# Altium schematic symbol library CON_DIVERSOS.SchLib: 77 symbols (part 2 of 4)
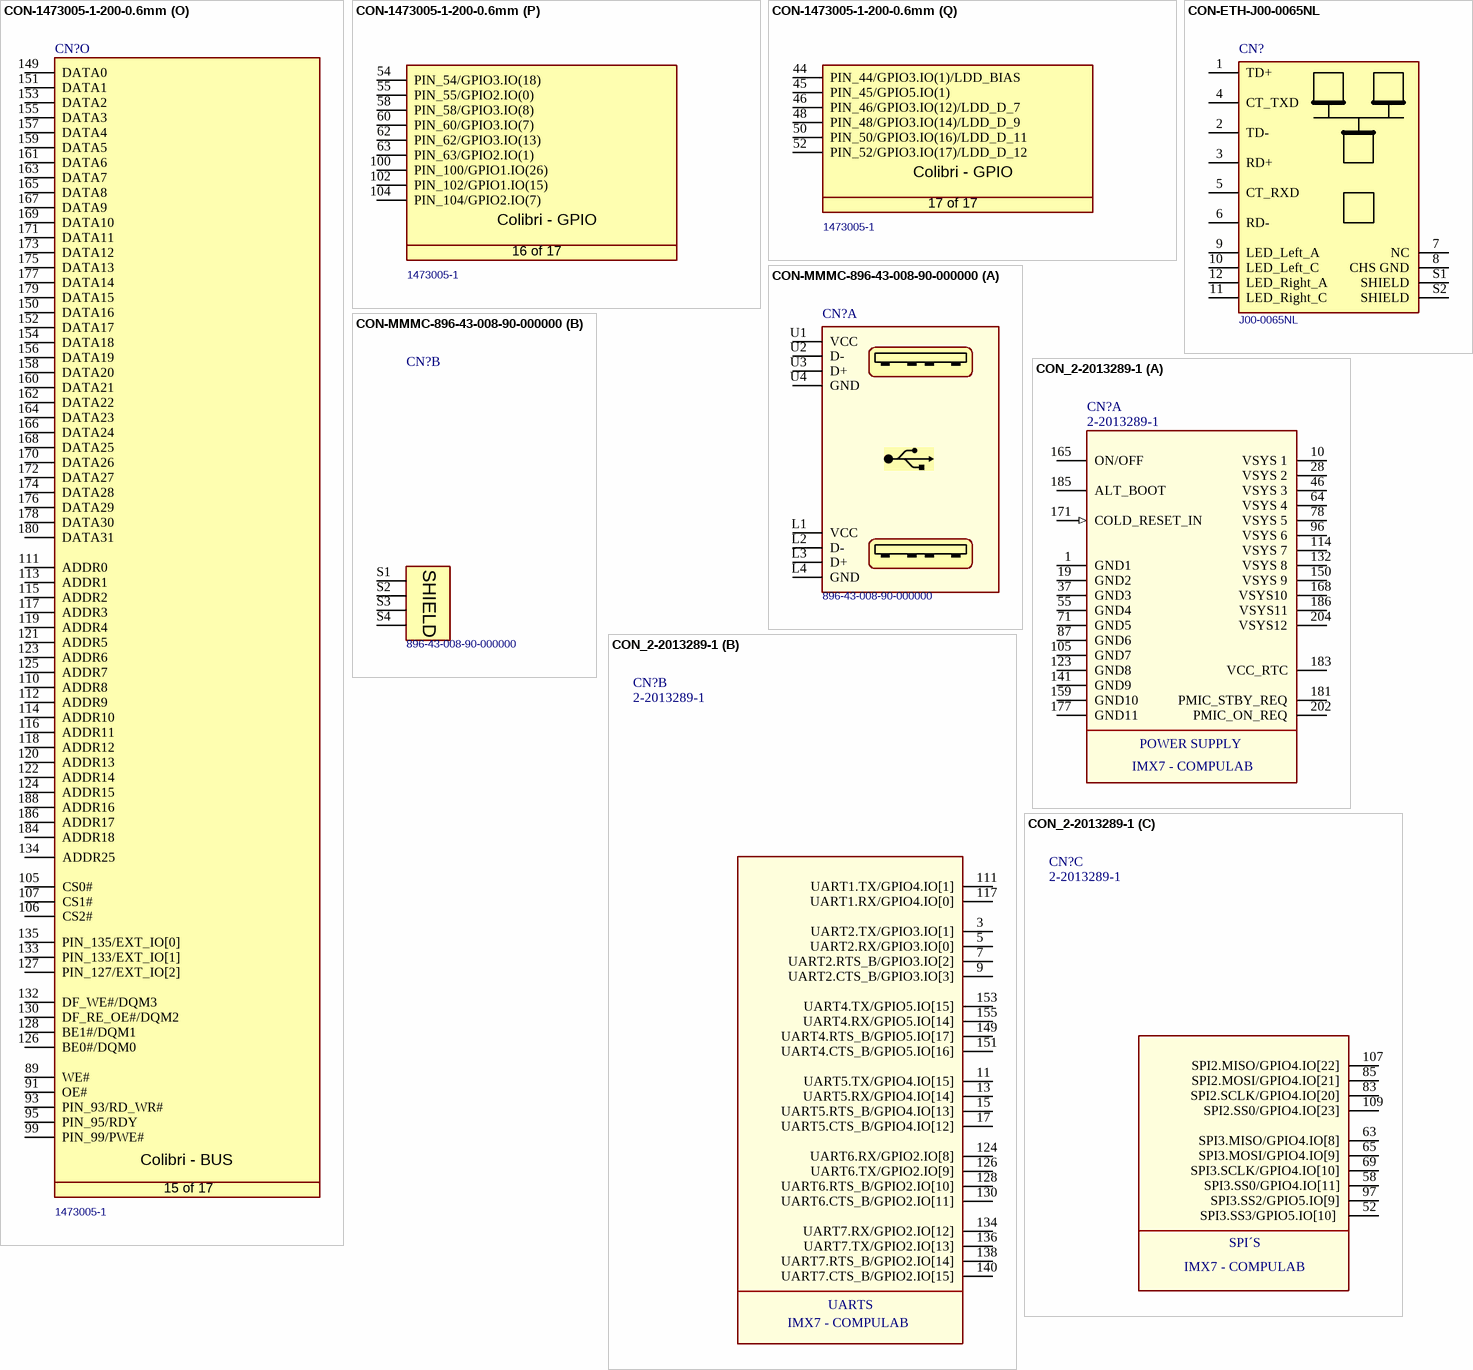
[diagram p6: symbols CON-1473005-1-200-0.6mm to CON_2-2013289-1]

## CON-ETH-J00-0065NL
designator CN?, comment J00-0065NL
RJ45 Connector; Manufacturer Part Number: J000065NL; Fabricante: Pulse; No. of ways: 12; Number of Contacts: 8; Shielding: Shielded; Gender: Female; Number of Ports: 1; Direction: Down; Number of Cores per Jack: 4; Pitch: 2.54mm; Value: *; Footprint: *; ComponentLink1Description: LOJA; ComponentLink1URL: https://www.digikey.com/products/en?keywords=J00-0065NL; Supplier 1: Digi-Key; Supplier Part Number 1: 553-1345-ND; Manufacturer: Pulse; Stock 1: 1473; Pricing 1: 1=6,260000, 10=6,003000, 25=5,481200, 50=5,220000, 100=4,959000, 250=4,437000, 500=4,176000, 1000=3,654000, 2500=3,471300 (USD); RoHS: Yes; Mount: Through Hole; Contact Plating: Gold; Contact Material: Bronze; Color: Green,Yellow; Housing Material: Thermoplastic; Min Operating Temperature: 0°C; Max Operating Temperature: 70°C; Termination: Solder; Orientation: Right Angle; Package Quantity: 25; Number of Rows: 1; Packaging: Bulk; Connector Type: RJ45; Number of Positions Loaded: 8; Length: 16.26mm; Depth: 21.59mm; Radiation Hardening: No; Lead Free: Lead Free; ComponentLink2URL: https://datasheet.ciiva.com/3138/+j414-3138717.pdf?src-supplier=Avnet; ComponentLink2Description: https://datasheet.ciiva.com/3138/+j414-3138717.pdf?src-supplier=Avnet; ComponentLink3URL: https://datasheet.ciiva.com/25908/+j414-25908734.pdf?src-supplier=Avnet+Europe; ComponentLink3Description: https://datasheet.ciiva.com/25908/+j414-25908734.pdf?src-supplier=Avnet+Europe; MPN: J00-0065NL
footprint T_PULSE_J00-0065NL (RJ45 Connector)
pins: 1 TD+, 2 TD-, 3 RD+, 4 CT_TXD, 5 CT_RXD, 6 RD-, 7 NC, 8 CHS GND, 9 LED_Left_A, 10 LED_Left_C, 11 LED_Right_C, 12 LED_Right_A, S1 SHIELD, S2 SHIELD

## CON-MMMC-896-43-008-90-000000
designator CN?, comment 896-43-008-90-000000
USB 2.0 double row, Type A; Manufacturer: Mill-Max; No. of ways: 8; Fabricante: Mill-Max Mfg. Corp.; Gender: Receptacle; Connector Type: USB,Receptacle; Number of Positions: 4; Number of Ports: 1; Insulation Resistance: 1GR; Max Voltage Rating (AC): 100V; USB Standard: USB 2.0; value: *; Footprint: *; Supplier 1: Digi-Key; Supplier Part Number 1: ED90063-ND; Manufacturer Part Number: 896-43-008-90-000000; Stock 1: 5699; Pricing 1: 1=2,35000, 10=2,12900, 25=1,99880, 50=1,91180, 100=1,82490, 250=1,65112, 500=1,52076, 1000=1,30350, 2500=1,21660 (USD); RoHS: Yes; Mount: Through Hole,Horizontal; Contact Material: Copper Alloy; Contact Plating: Gold,Tin; Housing Material: Polybutylene; Number of Terminals: 8; Packaging: Tray; Package Quantity: 120; Number of Contacts: 8; Termination: SMD/SMT; Orientation: Right Angle; Length: 14.5mm; Height: 15.5mm; Lead Free: Lead Free; Flammability Rating: UL94 V-0; REACH SVHC: Unknown; ComponentLink1URL: https://datasheet.ciiva.com/3897/896-43-008-90-000000-3897777.pdf?src-supplier=Arrow; ComponentLink1Description: https://datasheet.ciiva.com/3897/896-43-008-90-000000-3897777.pdf?src-supplier=Arrow; ComponentLink2URL: https://datasheet.ciiva.com/16404/8964300890000000-16404612.pdf?src-supplier=Future+Electronics; ComponentLink2Description: https://datasheet.ciiva.com/16404/8964300890000000-16404612.pdf?src-supplier=Future+Electronics; MPN: 896-43-008-90-000000
footprint T_MMMC_896-43-008-90-000000 (USB 2.0 double row, Type A)
part A pins: L1 VCC (power), L2 D-, L3 D+, L4 GND (power), U1 VCC (power), U2 D-, U3 D+, U4 GND (power)
part B pins: S1 SHIELD, S2 SHIELD, S3 SHIELD, S4 SHIELD

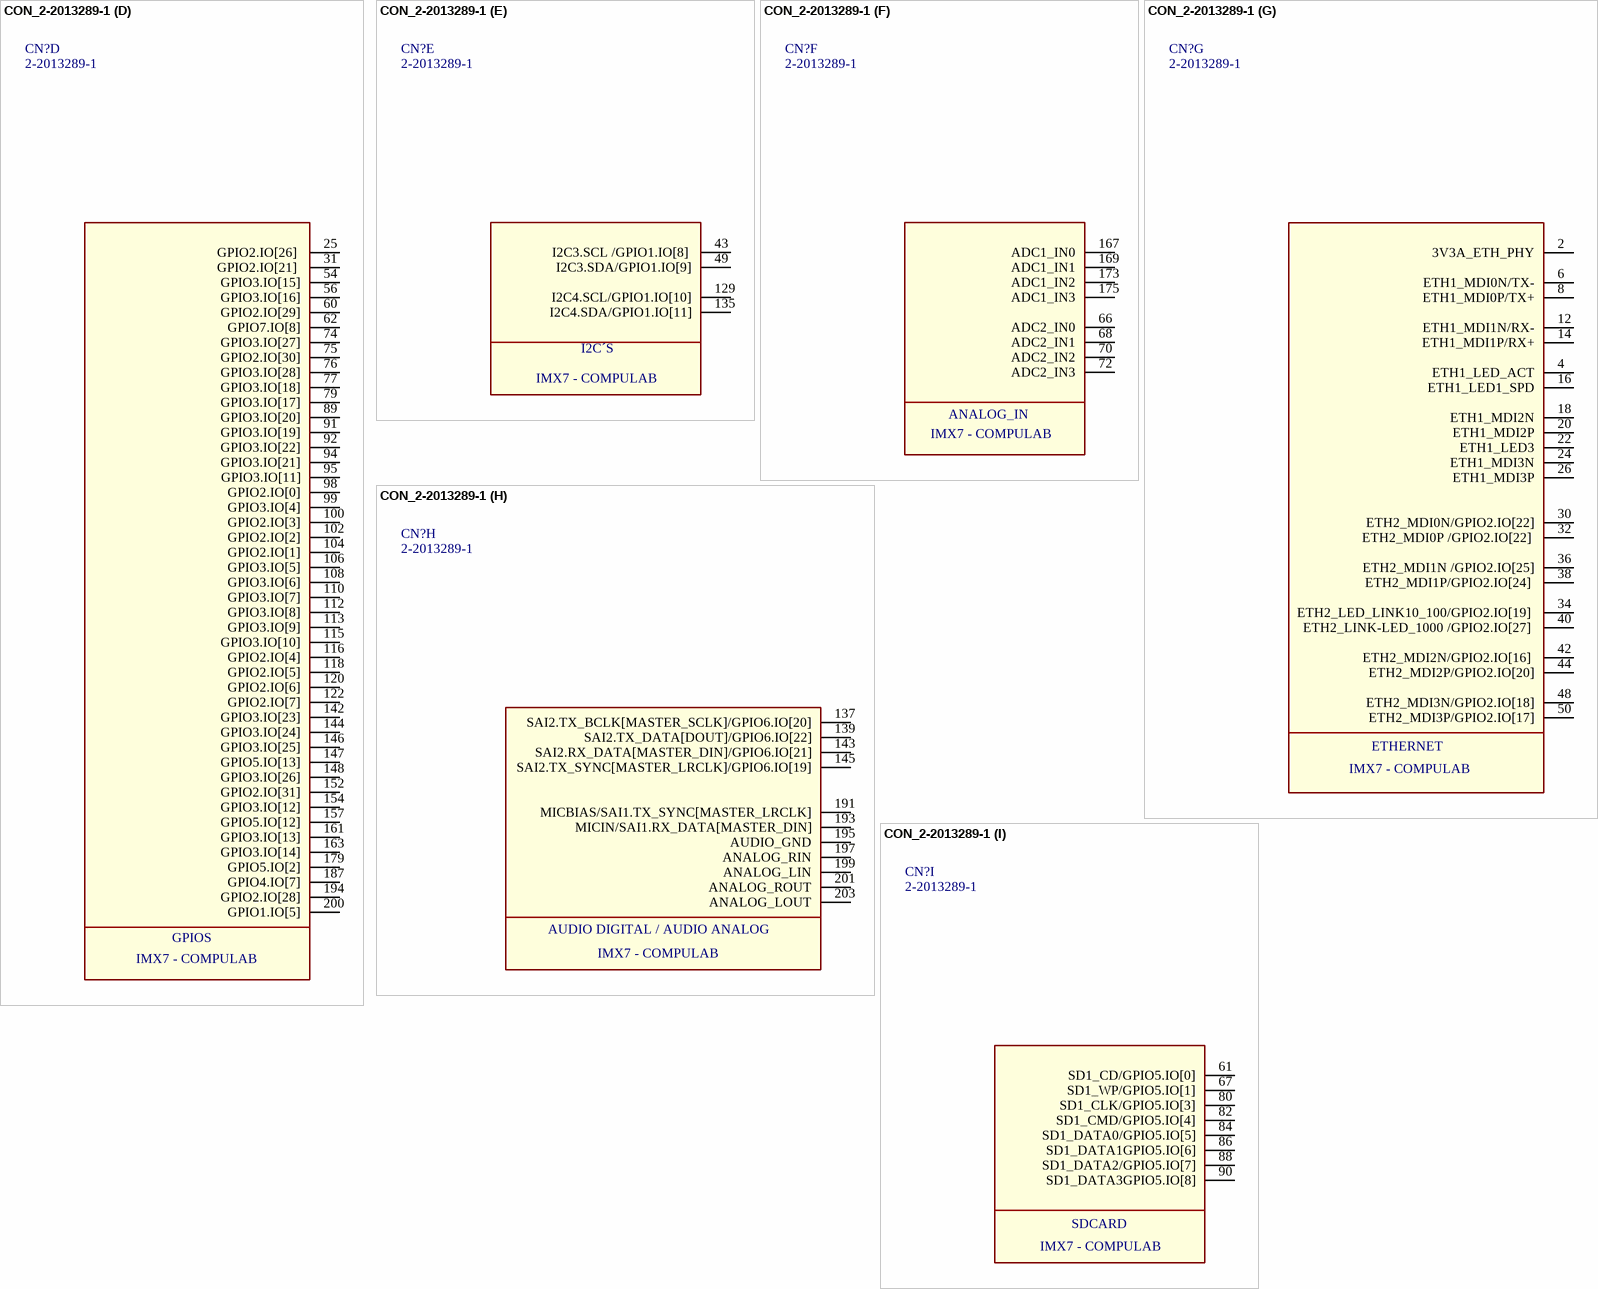
[diagram p3: symbol CON_2-2013289-1]

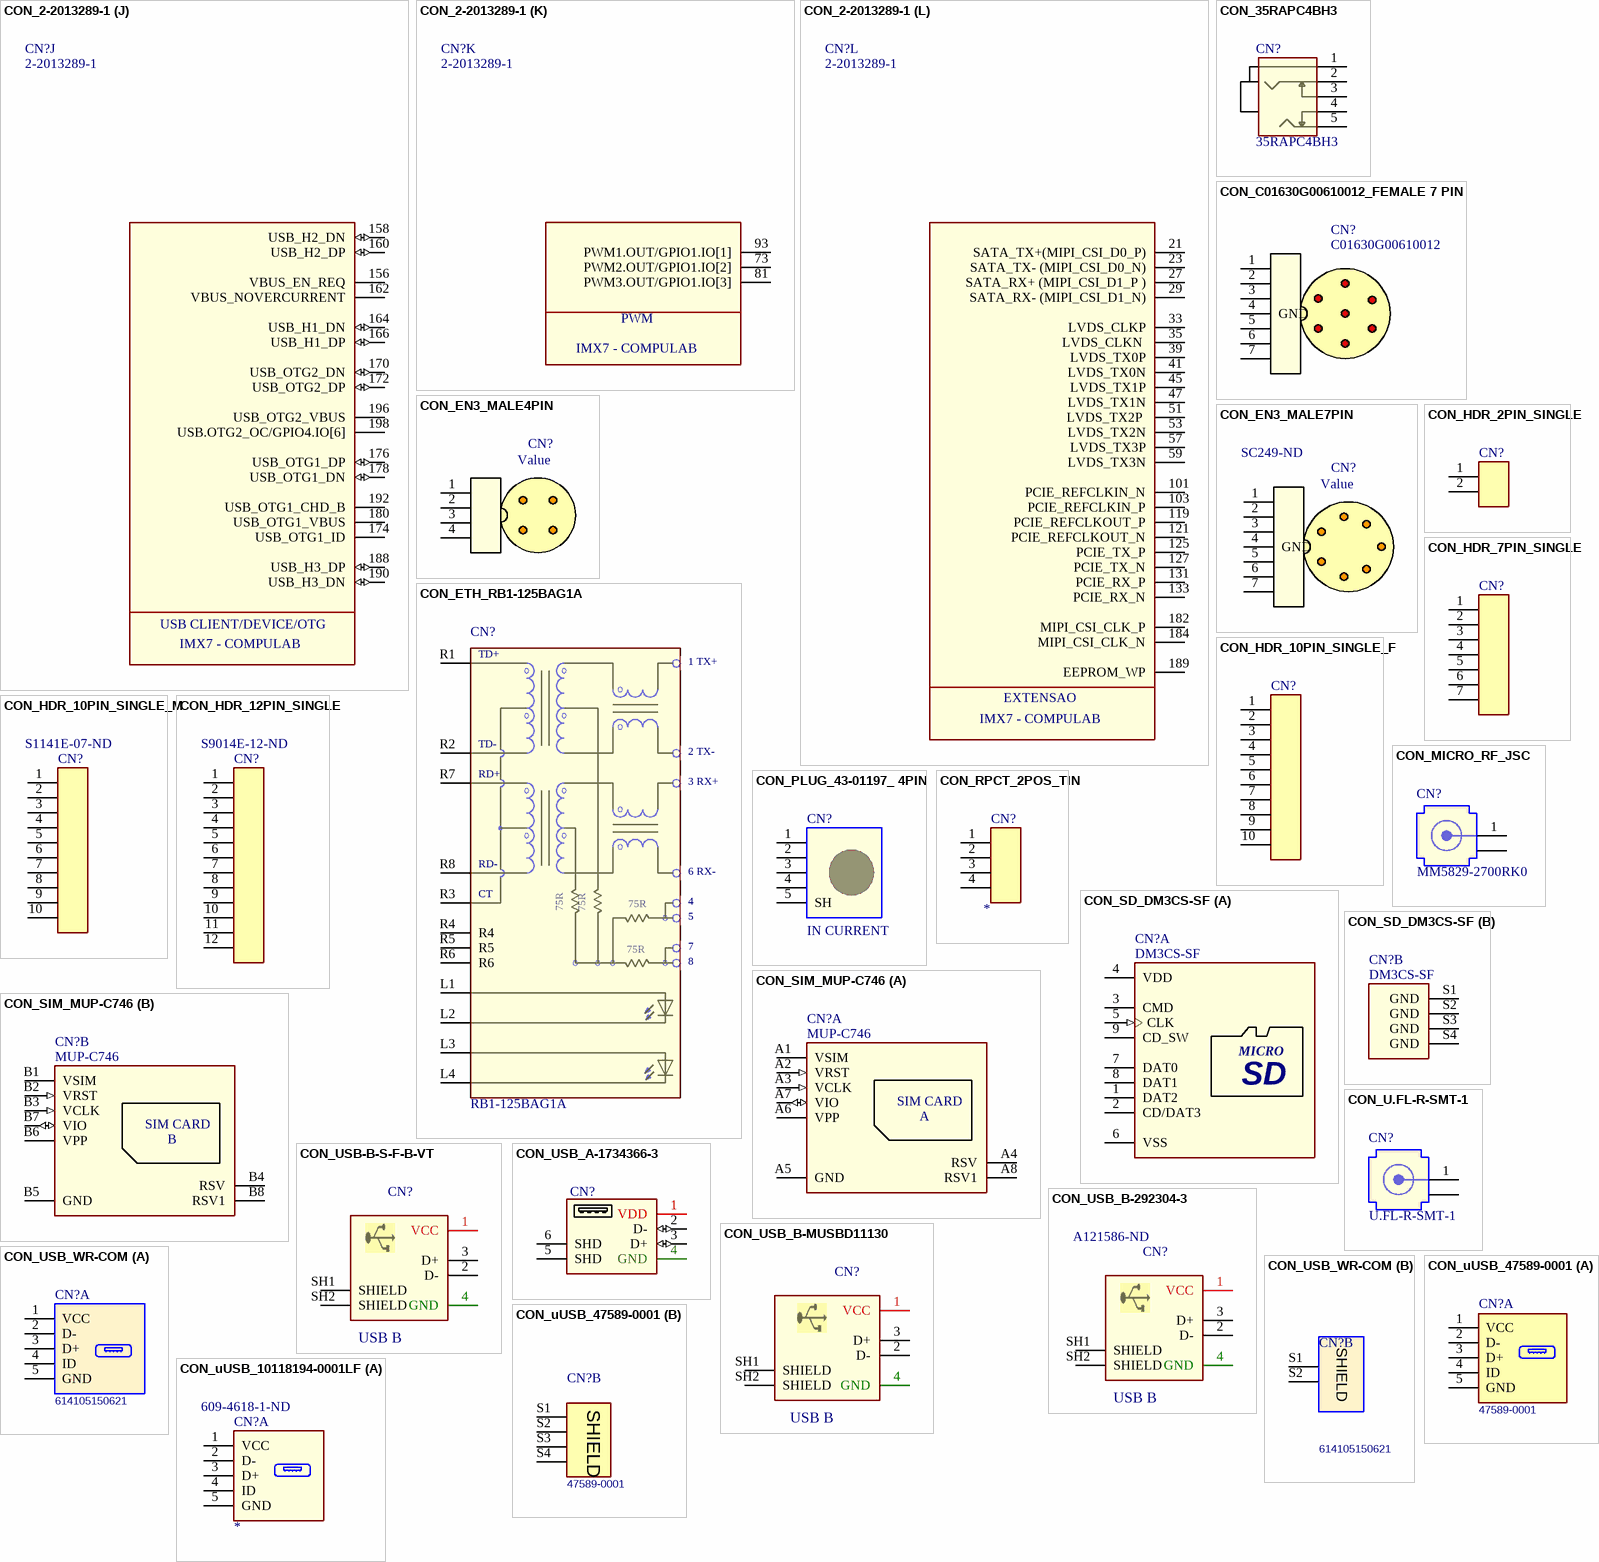
[diagram p4: symbols CON_2-2013289-1 to CON_uUSB_10118194-0001LF]

## CON_2-2013289-1
designator CN?, comment 2-2013289-1
CONN SKT SODIMM 204POS SMD; Manufacturer: TE Connectivity; FABRICANTE: TE CONN; Body Material: Thermoplastic; Number of Contacts: 204; Memory Type: SDRAM,DDR; Circuit Application: Power; Connector System: Cable-to-Board; Sealable: No (Without); PCB Mount Retention: With; Voltage Rating: 1.5V; Contact Current Rating: 500mA; Gender: Female; Pitch: 0.024inch; Row Spacing: 0.322inch; Stack Height: 5.2mm; Value: 2-2013289-1; ComponentLink1Description: LOJA; ComponentLink1URL: https://www.digikey.com/product-detail/en/2-2013289-1/A116236CT-ND/4569840?utm_campaign=buynow&WT.z_cid=ref_octopart_dkc_buynow&utm_medium=aggregator&curr=usd&site=us&utm_source=octopart; MPN: 2-2013289-1; FOOTPRINT: SMD 204P; Supplier 1: Digi-Key; Supplier Part Number 1: A116236CT-ND; Manufacturer Part Number: 2-2013289-1; Stock 1: 5205; Pricing 1: 1=4,42000, 10=4,24200, 25=3,88840, 50=3,71180, 100=3,53500 (USD); RoHS: Yes; Mount: Surface Mount; Housing Material: Thermoplastic; Housing Color: Black; Contact Material: Copper Alloy; Contact Plating: Gold; Insulation Material: Thermoplastic; Min Operating Temperature: -67°C; Max Operating Temperature: 185°C; Number of Rows: 2; Orientation: Right Angle; Termination: Solder; Number of Positions: 204; Package Quantity: 200; Packaging: Tape and Reel; Length: 71.5mm; Height: 5.2mm; Depth: 26.5mm; Radiation Hardening: No; Flammability Rating: UL94 V-0; ComponentLink2URL: https://datasheet.ciiva.com/11746/0900766b80f911ad-11746307.pdf?src-supplier=RSComponents; ComponentLink2Description: https://datasheet.ciiva.com/11746/0900766b80f911ad-11746307.pdf?src-supplier=RSComponents; ComponentLink3URL: https://datasheet.ciiva.com/30062/eng-ds-6-1773454-7-0509-30062934.pdf?src-supplier=Onlinecomponents.com; ComponentLink3Description: https://datasheet.ciiva.com/30062/eng-ds-6-1773454-7-0509-30062934.pdf?src-supplier=Onlinecomponents.com; ComponentLink4URL: https://datasheet.ciiva.com/15171/getdatasheetpartid-177737-15171703.pdf?src-supplier=Verical; ComponentLink4Description: https://datasheet.ciiva.com/15171/getdatasheetpartid-177737-15171703.pdf?src-supplier=Verical; ComponentLink5URL: https://datasheet.ciiva.com/16469/eng-ds-6-1773454-7-0511-16469352.pdf?src-supplier=Avnet+Asia; ComponentLink5Description: https://datasheet.ciiva.com/16469/eng-ds-6-1773454-7-0511-16469352.pdf?src-supplier=Avnet+Asia; ComponentLink6URL: https://datasheet.ciiva.com/3136/eng-ds-6-1773454-7-0511-3136377.pdf?src-supplier=Avnet; ComponentLink6Description: https://datasheet.ciiva.com/3136/eng-ds-6-1773454-7-0511-3136377.pdf?src-supplier=Avnet; ComponentLink7URL: https://datasheet.ciiva.com/16651/eng-ds-6-1773454-7-0511-16651402.pdf?src-supplier=Avnet+Europe; ComponentLink7Description: https://datasheet.ciiva.com/16651/eng-ds-6-1773454-7-0511-16651402.pdf?src-supplier=Avnet+Europe; ComponentLink8URL: https://datasheet.ciiva.com/16311/2-2013289-1-16311548.pdf?src-supplier=Future+Electronics; ComponentLink8Description: https://datasheet.ciiva.com/16311/2-2013289-1-16311548.pdf?src-supplier=Future+Electronics
footprint CON_TE_2-2013289-1 (SODIMM 204P)
part A pins: 1 GND1 (power), 10 VSYS 1 (power), 19 GND2 (power), 28 VSYS 2 (power), 37 GND3 (power), 46 VSYS 3, 55 GND4, 64 VSYS 4, 71 GND5, 78 VSYS 5 (power), 87 GND6 (power), 96 VSYS 6 (power), 105 GND7 (power), 114 VSYS 7 (power), 123 GND8 (power), 132 VSYS 8 (power), 141 GND9 (power), 150 VSYS 9 (power), 159 GND10 (power), 165 ON/OFF, 168 VSYS10 (power), 171 COLD_RESET_IN (in), 177 GND11, 181 PMIC_STBY_REQ, 183 VCC_RTC (power), 185 ALT_BOOT, 186 VSYS11 (power), 202 PMIC_ON_REQ, 204 VSYS12
part B pins: 3 UART2.TX/GPIO3.IO[1], 5 UART2.RX/GPIO3.IO[0], 7 UART2.RTS_B/GPIO3.IO[2], 9 UART2.CTS_B/GPIO3.IO[3], 11 UART5.TX/GPIO4.IO[15], 13 UART5.RX/GPIO4.IO[14], 15 UART5.RTS_B/GPIO4.IO[13], 17 UART5.CTS_B/GPIO4.IO[12], 111 UART1.TX/GPIO4.IO[1], 117 UART1.RX/GPIO4.IO[0], 124 UART6.RX/GPIO2.IO[8], 126 UART6.TX/GPIO2.IO[9], 128 UART6.RTS_B/GPIO2.IO[10], 130 UART6.CTS_B/GPIO2.IO[11], 134 UART7.RX/GPIO2.IO[12], 136 UART7.TX/GPIO2.IO[13], 138 UART7.RTS_B/GPIO2.IO[14], 140 UART7.CTS_B/GPIO2.IO[15], 149 UART4.RTS_B/GPIO5.IO[17], 151 UART4.CTS_B/GPIO5.IO[16], 153 UART4.TX/GPIO5.IO[15], 155 UART4.RX/GPIO5.IO[14]
part C pins: 52 SPI3.SS3/GPIO5.IO[10] , 58 SPI3.SS0/GPIO4.IO[11], 63 SPI3.MISO/GPIO4.IO[8], 65 SPI3.MOSI/GPIO4.IO[9], 69 SPI3.SCLK/GPIO4.IO[10], 83 SPI2.SCLK/GPIO4.IO[20], 85 SPI2.MOSI/GPIO4.IO[21], 97 SPI3.SS2/GPIO5.IO[9], 107 SPI2.MISO/GPIO4.IO[22], 109 SPI2.SS0/GPIO4.IO[23]
part D pins: 25 GPIO2.IO[26] , 31 GPIO2.IO[21] , 54 GPIO3.IO[15], 56 GPIO3.IO[16], 60 GPIO2.IO[29], 62 GPIO7.IO[8], 74 GPIO3.IO[27], 75 GPIO2.IO[30], 76 GPIO3.IO[28], 77 GPIO3.IO[18], 79 GPIO3.IO[17], 89 GPIO3.IO[20], 91 GPIO3.IO[19], 92 GPIO3.IO[22], 94 GPIO3.IO[21], 95 GPIO3.IO[11], 98 GPIO2.IO[0], 99 GPIO3.IO[4], 100 GPIO2.IO[3], 102 GPIO2.IO[2], 104 GPIO2.IO[1], 106 GPIO3.IO[5], 108 GPIO3.IO[6], 110 GPIO3.IO[7], 112 GPIO3.IO[8], 113 GPIO3.IO[9], 115 GPIO3.IO[10], 116 GPIO2.IO[4], 118 GPIO2.IO[5], 120 GPIO2.IO[6], 122 GPIO2.IO[7], 142 GPIO3.IO[23], 144 GPIO3.IO[24], 146 GPIO3.IO[25], 147 GPIO5.IO[13], 148 GPIO3.IO[26], 152 GPIO2.IO[31], 154 GPIO3.IO[12], 157 GPIO5.IO[12], 161 GPIO3.IO[13], 163 GPIO3.IO[14], 179 GPIO5.IO[2], 187 GPIO4.IO[7], 194 GPIO2.IO[28], 200 GPIO1.IO[5]
part E pins: 43 I2C3.SCL /GPIO1.IO[8] , 49 I2C3.SDA/GPIO1.IO[9], 129 I2C4.SCL/GPIO1.IO[10], 135 I2C4.SDA/GPIO1.IO[11]
part F pins: 66 ADC2_IN0, 68 ADC2_IN1, 70 ADC2_IN2, 72 ADC2_IN3, 167 ADC1_IN0, 169 ADC1_IN1, 173 ADC1_IN2, 175 ADC1_IN3
part G pins: 2 3V3A_ETH_PHY (power), 4 ETH1_LED_ACT, 6 ETH1_MDI0N/TX-, 8 ETH1_MDI0P/TX+, 12 ETH1_MDI1N/RX-, 14 ETH1_MDI1P/RX+, 16 ETH1_LED1_SPD, 18 ETH1_MDI2N, 20 ETH1_MDI2P, 22 ETH1_LED3, 24 ETH1_MDI3N, 26 ETH1_MDI3P, 30 ETH2_MDI0N/GPIO2.IO[22], 32 ETH2_MDI0P /GPIO2.IO[22] , 34 ETH2_LED_LINK10_100/GPIO2.IO[19] , 36 ETH2_MDI1N /GPIO2.IO[25], 38 ETH2_MDI1P/GPIO2.IO[24] , 40 ETH2_LINK-LED_1000 /GPIO2.IO[27] , 42 ETH2_MDI2N/GPIO2.IO[16] , 44 ETH2_MDI2P/GPIO2.IO[20], 48 ETH2_MDI3N/GPIO2.IO[18], 50 ETH2_MDI3P/GPIO2.IO[17]
part H pins: 137 SAI2.TX_BCLK[MASTER_SCLK]/GPIO6.IO[20], 139 SAI2.TX_DATA[DOUT]/GPIO6.IO[22], 143 SAI2.RX_DATA[MASTER_DIN]/GPIO6.IO[21], 145 SAI2.TX_SYNC[MASTER_LRCLK]/GPIO6.IO[19], 191 MICBIAS/SAI1.TX_SYNC[MASTER_LRCLK], 193 MICIN/SAI1.RX_DATA[MASTER_DIN], 195 AUDIO_GND (power), 197 ANALOG_RIN, 199 ANALOG_LIN, 201 ANALOG_ROUT, 203 ANALOG_LOUT
part I pins: 61 SD1_CD/GPIO5.IO[0], 67 SD1_WP/GPIO5.IO[1], 80 SD1_CLK/GPIO5.IO[3], 82 SD1_CMD/GPIO5.IO[4], 84 SD1_DATA0/GPIO5.IO[5], 86 SD1_DATA1GPIO5.IO[6], 88 SD1_DATA2/GPIO5.IO[7], 90 SD1_DATA3GPIO5.IO[8]
part J pins: 156 VBUS_EN_REQ, 158 USB_H2_DN (io), 160 USB_H2_DP (io), 162 VBUS_NOVERCURRENT, 164 USB_H1_DN (io), 166 USB_H1_DP (io), 170 USB_OTG2_DN (io), 172 USB_OTG2_DP (io), 174 USB_OTG1_ID, 176 USB_OTG1_DP (io), 178 USB_OTG1_DN (io), 180 USB_OTG1_VBUS (power), 188 USB_H3_DP (io), 190 USB_H3_DN (io), 192 USB_OTG1_CHD_B, 196 USB_OTG2_VBUS (power), 198 USB.OTG2_OC/GPIO4.IO[6]
part K pins: 73 PWM2.OUT/GPIO1.IO[2], 81 PWM3.OUT/GPIO1.IO[3], 93 PWM1.OUT/GPIO1.IO[1]
part L pins: 21 SATA_TX+(MIPI_CSI_D0_P), 23 SATA_TX- (MIPI_CSI_D0_N), 27 SATA_RX+ (MIPI_CSI_D1_P ), 29 SATA_RX- (MIPI_CSI_D1_N), 33 LVDS_CLKP, 35 LVDS_CLKN , 39 LVDS_TX0P, 41 LVDS_TX0N, 45 LVDS_TX1P, 47 LVDS_TX1N, 51 LVDS_TX2P , 53 LVDS_TX2N, 57 LVDS_TX3P, 59 LVDS_TX3N, 101 PCIE_REFCLKIN_N, 103 PCIE_REFCLKIN_P, 119 PCIE_REFCLKOUT_P, 121 PCIE_REFCLKOUT_N, 125 PCIE_TX_P, 127 PCIE_TX_N, 131 PCIE_RX_P, 133 PCIE_RX_N, 182 MIPI_CSI_CLK_P, 184 MIPI_CSI_CLK_N, 189 EEPROM_WP
part A text: POWER SUPPLY; IMX7 - COMPULAB
part B text: UARTS; IMX7 - COMPULAB
part C text: SPI´S; IMX7 - COMPULAB
part D text: GPIOS; IMX7 - COMPULAB
part E text: I2C´S; IMX7 - COMPULAB
part F text: ANALOG_IN; IMX7 - COMPULAB
part G text: ETHERNET; IMX7 - COMPULAB
part H text: AUDIO DIGITAL / AUDIO ANALOG; IMX7 - COMPULAB
part I text: SDCARD; IMX7 - COMPULAB
part J text: USB CLIENT/DEVICE/OTG; IMX7 - COMPULAB
part K text: PWM; IMX7 - COMPULAB
part L text: EXTENSAO; IMX7 - COMPULAB

## CON_35RAPC4BH3
designator CN?, comment 35RAPC4BH3
CONN JACK STEREO 3.5MM R/A; Manufacturer: Switchcraft; FABRICANTE: Switchcraft Inc.; Body Material: Plastic; Number of Positions: 3; Gender: Female; Voltage Rating: 500V; Shielding: Unshielded; Number of Ports: 1; Number of Contacts: 5; Cable Length: 17.5mm; MPN: 35RAPC4BH3; Digi-Key_Part_Number: SC1464-ND; FOOTPRINT: PTH; Value: 35RAPC4BH3; ComponentLink1Description: loja; ComponentLink1URL: https://www.digikey.com/product-detail/en/switchcraft-inc/35RAPC4BH3/SC1464-ND/1288781; ComponentLink2Description: datasheet; ComponentLink2URL: http://www.switchcraft.com/Drawings/35rapc__h3_cd.pdf; Supplier 1: Digi-Key; Supplier Part Number 1: SC1464-ND; Manufacturer Part Number: 35RAPC4BH3; Stock 1: 0; Pricing 1: 1=2,10000, 10=2,01600, 25=1,84800, 50=1,76400, 100=1,68000, 250=1,47000, 500=1,42800, 1000=1,31250 (USD); RoHS: Yes; Mount: Through Hole,PCB; Weight: 0.059966oz; Contact Plating: Nickel,Silver; Color: Black; Contact Material: Copper Alloy; Housing Color: Black; Housing Material: Thermoplastic; Number of Terminals: 5; Number of Poles: 3; Package Quantity: 1; Packaging: Bulk; Orientation: Right Angle; Termination: Solder; Length: 11.5mm; Depth: 17.5mm; Lead Free: Lead Free; REACH SVHC: No SVHC; ComponentLink3URL: https://datasheet.ciiva.com/19454/568392-19454146.pdf?src-supplier=Jameco; ComponentLink3Description: https://datasheet.ciiva.com/19454/568392-19454146.pdf?src-supplier=Jameco; ComponentLink4URL: https://datasheet.ciiva.com/20210/20-1660-20210974.pdf?src-supplier=Rapid+Electronics; ComponentLink4Description: https://datasheet.ciiva.com/20210/20-1660-20210974.pdf?src-supplier=Rapid+Electronics; ComponentLink5URL: https://datasheet.ciiva.com/16878/70214416-16878982.pdf?src-supplier=Allied+Electronics; ComponentLink5Description: https://datasheet.ciiva.com/16878/70214416-16878982.pdf?src-supplier=Allied+Electronics; ComponentLink6URL: https://datasheet.ciiva.com/390/35rapc-h3-cd-390492.pdf?src-supplier=Digi-Key; ComponentLink6Description: https://datasheet.ciiva.com/390/35rapc-h3-cd-390492.pdf?src-supplier=Digi-Key
footprint CON_35RAPC4BH3 (3.50mm (0.141", 1/8", Mini Plug) - Headphone Phone Jack Stereo (3 Conductor, TRS) Connector Solder)
pins: 1, 2, 3, 4, 5

## CON_C01630G00610012_FEMALE 7 PIN
designator CN?, comment C01630G00610012
Receptáculo circular do conector de 7 posições, soquetes fêmeas solda / CONN RCPT FMALE 7POS SOLDER / IP65 / 67 - Poeira hermética, resistente à água, à prova d'água; Manufacturer: Amphenol; Manufacturer Part Number: C016-30G006-100-12; Fabricante: Amphenol Sine Systems Corp; Body Material: Nylon,Polyamide; Number of Contacts: 7; Current Rating: 10A; Gender: Receptacle; Insulation Resistance: 10MR; Connector Type: Receptacle,Circular,Socket; Voltage Rating: 250V; Strain Relief: Yes (With); Wire/Cable Diameter: 12.5mm; Hole Diameter: 22mm; Ratings: IP67,IP65,Waterproof,Water Resistant,Dust Tight; Approvals: UL,CSA,VDE; Value: C01630G00610012; Footprint: Receptaculo; MPN: C01630G00610012; ComponentLink1Description: LOJA; ComponentLink1URL: https://www.digikey.com/product-detail/en/amphenol-sine-systems-corp/C01630G00610012/361-1082-ND/1036126; ComponentLink2Description: DATASHEET; ComponentLink2URL: https://www.amphenol-sine.com/pdf/catalog/Ecomate-Plastic-Assembled-Solutions-Brochure-2017-Digital.pdf; Supplier 1: Digi-Key; Supplier Part Number 1: 361-1082-ND; Stock 1: 539; Pricing 1: 1=16,24000, 10=14,76000, 25=14,39120, 50=13,28400, 100=12,54600, 250=11,43900, 500=10,70100, 1000=9,81540 (USD); RoHS: Yes; Mount: Panel,Free Hanging; Weight: 0.592603oz; Contact Plating: Silver; Color: Black; Housing Material: Polyamide; Insulation Material: Plastic; Contact Material: Silver; Min Operating Temperature: -40°C; Max Operating Temperature: 125°C; Orientation: Straight; Termination: Solder; Packaging: Bulk; Number of Positions: 7; Fastening Type: Threaded; Contact Gender: Female; Package Quantity: 50; Length: 32mm; Depth: 38mm; Radiation Hardening: No; REACH SVHC: No SVHC; Lead Free: Lead Free; Flammability Rating: UL94 V-0; ComponentLink3URL: https://datasheet.ciiva.com/23582/1726566-23582144.pdf?src-supplier=Newark; ComponentLink3Description: https://datasheet.ciiva.com/23582/1726566-23582144.pdf?src-supplier=Newark; ComponentLink4URL: https://datasheet.ciiva.com/25341/1722314-25341306.pdf?src-supplier=Newark; ComponentLink4Description: https://datasheet.ciiva.com/25341/1722314-25341306.pdf?src-supplier=Newark; ComponentLink5URL: https://datasheet.ciiva.com/11735/0900766b80ef9738-11735216.pdf?src-supplier=RSComponents; ComponentLink5Description: https://datasheet.ciiva.com/11735/0900766b80ef9738-11735216.pdf?src-supplier=RSComponents; ComponentLink6URL: https://datasheet.ciiva.com/11738/0900766b806e621b-11738731.pdf?src-supplier=RSComponents; ComponentLink6Description: https://datasheet.ciiva.com/11738/0900766b806e621b-11738731.pdf?src-supplier=RSComponents; ComponentLink7URL: https://datasheet.ciiva.com/29266/740028-da-01-de-geraetedose-6-pe-29266254.pdf?src-supplier=Conrad; ComponentLink7Description: https://datasheet.ciiva.com/29266/740028-da-01-de-geraetedose-6-pe-29266254.pdf?src-supplier=Conrad; ComponentLink8URL: https://datasheet.ciiva.com/8018/28-ecomate-052009-e-8018553.pdf?src-supplier=Element14; ComponentLink8Description: https://datasheet.ciiva.com/8018/28-ecomate-052009-e-8018553.pdf?src-supplier=Element14; ComponentLink9URL: https://datasheet.ciiva.com/15179/getdatasheetpartid-377605-15179626.pdf?src-supplier=Verical; ComponentLink9Description: https://datasheet.ciiva.com/15179/getdatasheetpartid-377605-15179626.pdf?src-supplier=Verical; ComponentLink10URL: https://datasheet.ciiva.com/570/ecomate-570361.pdf?src-supplier=Digi-Key; ComponentLink10Description: https://datasheet.ciiva.com/570/ecomate-570361.pdf?src-supplier=Digi-Key; ComponentLink11URL: https://datasheet.ciiva.com/16941/70013123-16941612.pdf?src-supplier=Allied+Electronics; ComponentLink11Description: https://datasheet.ciiva.com/16941/70013123-16941612.pdf?src-supplier=Allied+Electronics; ComponentLink12URL: https://datasheet.ciiva.com/14110/yaecomate-data-e-14110607.pdf?src-supplier=Distrelec; ComponentLink12Description: https://datasheet.ciiva.com/14110/yaecomate-data-e-14110607.pdf?src-supplier=Distrelec; ComponentLink13URL: https://datasheet.ciiva.com/22720/1707451-22720335.pdf?src-supplier=Element14; ComponentLink13Description: https://datasheet.ciiva.com/22720/1707451-22720335.pdf?src-supplier=Element14
footprint CON_C01630G00610012_FEMALE 7 PIN (Receptáculo circular do conector de 7 posições, soquetes fêmeas solda / CONN RCPT FMALE 7POS SOLDER / IP65 / 67 - Poeira hermética, resistente à água, à prova d'água)
footprint CON_C01630G00610012_FEMALE 7 PIN COM A PLACA (Receptáculo circular do conector de 7 posições, soquetes fêmeas solda / CONN RCPT FMALE 7POS SOLDER / IP65 / 67 - Poeira hermética, resistente à água, à prova d'água)
pins: 1, 2, 3, 4 GND, 5, 6, 7

## CON_EN3_MALE4PIN
designator CN?, comment Value
IP66/68 - Dust Tight, Water Resistant, Waterproof / UL94 V-0 / Unshielded / 5A / 250VAC/DC / -40°C ~ 65°C / Copper Alloy / Elastomer - Receptacle, Male 4 Pins; MPN: EN3P4MRAPCX; Manufacturer: Switchcraft; Fabricante: Switchcraft Inc.; Voltage Rating: 600V; Number of Positions: 4; Ratings: IP66,Waterproof,Water Resistant,Dust Tight; Value: Value; Footprint: CONN_MALE_EN3P4MRAPCX; ComponentLink1Description: LOJA; ComponentLink1URL: https://www.digikey.com/products/en?keywords=EN3P4MRAPCX; ComponentLink2Description: DATASHEET; ComponentLink2URL: http://www.switchcraft.com/ProductSummary.aspx?Parent=1035; Supplier 1: Digi-Key; Supplier Part Number 1: SC244-ND; Manufacturer Part Number: EN3P4MRAPCX; Stock 1: 180; Pricing 1: 1=10,84000, 10=9,85600, 25=9,60960, 50=8,87040, 100=8,37760, 250=7,70000 (USD); RoHS: Yes; Mount: Through Hole,Panel,Bulkhead; Contact Plating: Gold; Contact Material: Copper Alloy; Housing Material: Thermoplastic; Shell Material: Plastic; Min Operating Temperature: -40°C; Max Operating Temperature: 65°C; Package Quantity: 1; Packaging: Bulk; Termination: Solder; Gender: Male; Orientation: Right Angle; Fastening Type: Bayonet; Current Rating: 5A; Contact Gender: Male; Connector Type: Receptacle; Number of Contacts: 4; ComponentLink3URL: https://datasheet.ciiva.com/23583/1758724-23583026.pdf?src-supplier=Newark; ComponentLink3Description: https://datasheet.ciiva.com/23583/1758724-23583026.pdf?src-supplier=Newark; ComponentLink4URL: https://datasheet.ciiva.com/11734/0900766b81259166-11734551.pdf?src-supplier=RSComponents; ComponentLink4Description: https://datasheet.ciiva.com/11734/0900766b81259166-11734551.pdf?src-supplier=RSComponents; ComponentLink5URL: https://datasheet.ciiva.com/7151/npb-572-en3-26awg-9-18-crimp-contacts-clamping-system-7151101.pdf?src-supplier=Digi-Key; ComponentLink5Description: https://datasheet.ciiva.com/7151/npb-572-en3-26awg-9-18-crimp-contacts-clamping-system-7151101.pdf?src-supplier=Digi-Key
footprint CONN_MALE_EN3P4MRAPCX (EN3 4-position panel connector; #20 gold plated right angle PC board mount male pins; bulk packed; RoHS compliant)
pins: 1, 2, 3, 4

## CON_EN3_MALE7PIN
designator CN?, comment Value  Supplier Part Number 1: SC249-ND
Standard Circular Connector 7P R/A PANEL MT; MPN: EN3P7MRAPCX; Manufacturer: Switchcraft; Fabricante: Switchcraft Inc.; Strain Relief: No (Without); Current Rating: 4A; Number of Positions: 7; Connector Type: Receptacle; Ratings: IP66,Waterproof,Water Resistant,Dust Tight; Value: Value; Footprint: TJK / JGK; ComponentLink1Description: LOJA; ComponentLink1URL: https://www.digikey.com/products/en?keywords=%09EN3P7MRAPCX; ComponentLink2Description: DATASHEET; ComponentLink2URL: http://www.switchcraft.com/Documents/Switchcraft_EN3_NPB_602.pdf; Supplier 1: Digi-Key; Manufacturer Part Number: EN3P7MRAPCX; RoHS: Yes; Category: Circular Connectors; Stock 1: 103; Pricing 1: 1=15,46000, 10=14,35200, 25=12,88000, 50=12,51200, 100=11,50000 (USD); Mount: Through Hole,Panel,Bulkhead; Contact Plating: Gold; Contact Material: Copper Alloy; Shell Material: Plastic; Min Operating Temperature: -40°C; Max Operating Temperature: 65°C; Contact Gender: Male; Packaging: Bulk; Package Quantity: 1; Fastening Type: Bayonet; Orientation: Right Angle; Termination: Solder; Radiation Hardening: No; ComponentLink3URL: https://datasheet.ciiva.com/15192/getdatasheetpartid-408828-15192793.pdf?src-supplier=Verical; ComponentLink3Description: https://datasheet.ciiva.com/15192/getdatasheetpartid-408828-15192793.pdf?src-supplier=Verical; ComponentLink4URL: https://datasheet.ciiva.com/7151/npb-572-en3-26awg-9-18-crimp-contacts-clamping-system-7151018.pdf?src-supplier=Digi-Key; ComponentLink4Description: https://datasheet.ciiva.com/7151/npb-572-en3-26awg-9-18-crimp-contacts-clamping-system-7151018.pdf?src-supplier=Digi-Key
footprint FOOTPRINT TJK / JGK (IP66/68 - Dust Tight, Water Resistant, Waterproof / UL94 V-0 / Unshielded / 4A / 250VAC/DC / -40°C ~ 65°C / Copper Alloy / Elastomer - Receptacle, Male 7 Pins)
footprint TJK / JGK (IP66/68 - Dust Tight, Water Resistant, Waterproof / UL94 V-0 / Unshielded / 4A / 250VAC/DC / -40°C ~ 65°C / Copper Alloy / Elastomer - Receptacle, Male 7 Pins)
pins: 1, 2, 3, 4 GND, 5, 6, 7

## CON_ETH_RB1-125BAG1A
designator CN?, comment RB1-125BAG1A
CONN MAGJACK 1PORT 100 BASE-T R/A; Fabricante: WIZnet; Connector Type: RJ45; Shielding: Shielded; Number of Cores per Jack: 4; Number of Ports: 1; Direction: Down; Number of Positions: 8; Insulation Resistance: 500MR; MPN: RB1-125BAG1A; Footprint: PTH R/A; Value: *; Supplier 1: Digi-Key; Supplier Part Number 1: 1278-1011-ND; Manufacturer: WIZnet; Manufacturer Part Number: RB1-125BAG1A; Stock 1: 6245; Pricing 1: 1=2,55000, 10=2,44800, 25=2,24400, 50=2,14200, 100=2,04000, 250=1,78500, 500=1,73400, 1000=1,56000 (USD); RoHS: Yes; Mount: Through Hole; Case/Package: 100; Contact Plating: Gold; Color: Green,Yellow,Black; Contact Material: Bronze; Housing Material: Thermoplastic; Min Operating Temperature: 0°C; Max Operating Temperature: 70°C; Package Quantity: 420; Packaging: Bulk; Termination: Solder; Number of Rows: 1; Lead Free: Lead Free; ComponentLink1URL: https://datasheet.ciiva.com/16480/rb1-125bag1a-16480451.pdf?src-supplier=Future+Electronics; ComponentLink1Description: https://datasheet.ciiva.com/16480/rb1-125bag1a-16480451.pdf?src-supplier=Future+Electronics; ComponentLink2URL: https://datasheet.ciiva.com/19455/2132875-19455478.pdf?src-supplier=Jameco; ComponentLink2Description: https://datasheet.ciiva.com/19455/2132875-19455478.pdf?src-supplier=Jameco; ComponentLink3URL: https://datasheet.ciiva.com/6930/rb1-125bag1a-approvalsheet-6930969.pdf?src-supplier=Digi-Key; ComponentLink3Description: https://datasheet.ciiva.com/6930/rb1-125bag1a-approvalsheet-6930969.pdf?src-supplier=Digi-Key; ComponentLink4URL: https://datasheet.ciiva.com/15367/rb1-125bag1a111-00-224696-15367787.pdf?src-supplier=Mouser; ComponentLink4Description: https://datasheet.ciiva.com/15367/rb1-125bag1a111-00-224696-15367787.pdf?src-supplier=Mouser
footprint T_PULSE_RB1-125BAG1A(Primary) (CONN MAGJACK 1PORT PTH R/A)
pins: L1, L2, L3, L4, R1 TD+, R2 TD-, R3 CT, R4, R5, R6, R7 RD+, R8 RD-
text: 1 TX+; 2 TX-; 3 RX+; 6 RX-; 75R; 5; 7

## CON_HDR_2PIN_SINGLE
designator CN?  (value not drawn)
CONN HEADER VERT 2POS 3.96MM; MPN: FWJ-02-01-T-S; Fabricante: Samtec; Gender: Male; Number of Contacts: 2; Connector Type: Male Pin; Pitch: 0.156inch; Footprint: CON_HDR_2PIN_VERT; Value: *; ComponentLink1Description: LOJA; ComponentLink1URL: https://www.digikey.com/products/en?keywords=FWJ-02-01-T-S; ComponentLink2Description: DATASHEET; ComponentLink2URL: http://suddendocs.samtec.com/catalog_english/fwj.pdf; Supplier 1: Digi-Key; Supplier Part Number 1: SAM8421-ND; Manufacturer: Samtec; Manufacturer Part Number: FWJ-02-01-T-S; Stock 1: 345; Pricing 1: 1=0,43000, 10=0,40200, 100=0,30820, 500=0,26800, 1000=0,22110, 5000=0,19430, 10000=0,18090 (USD); RoHS: Yes; Mount: Through Hole; Contact Plating: Tin; Contact Material: Bronze; Housing Color: Black; Housing Material: Plastic; Color: Black; Number of Rows: 1; Termination: Solder; Packaging: Bulk; Number of Positions: 2; Length: 7.92mm; Height: 3.18mm; Width: 6.35mm; Contact Mating Length: 0.45inch; Radiation Hardening: No; REACH SVHC: No SVHC; Lead Free: Lead Free; ComponentLink3URL: https://datasheet.ciiva.com/715/fwj-xx-xx-tx-s-xx-mkt-715883.pdf?src-supplier=Digi-Key; ComponentLink3Description: https://datasheet.ciiva.com/715/fwj-xx-xx-tx-s-xx-mkt-715883.pdf?src-supplier=Digi-Key
footprint CON_HDR_2PIN_VERT (CONN HEADER VERT 12POS 1.27MM)
pins: 1, 2

## CON_HDR_7PIN_SINGLE
designator CN?, comment PBC07SBDN  (value not drawn)
CONN HEADER  7POS 2,54MM; Manufacturer: Sullins; Fabricante: Sullins Connector Solutions; Connector Type: Male Pin; Number of Positions: 7; Gender: Male; Pitch: 0.1inch; MPN: PBC07SBDN; Footprint: HDR 7 pin PTH; Value: PBC07SBDN; ComponentLink1Description: LOJA; ComponentLink1URL: https://www.digikey.com/product-detail/en/sullins-connector-solutions/PBC07SBDN/S1141E-07-ND/860455; ComponentLink2Description: DATASHEET; ComponentLink2URL: https://s3.amazonaws.com/catalogspreads-pdf/PAGE112-113%20.100%20MALE%20HDR.pdf; Supplier 1: Digi-Key; Supplier Part Number 1: S1141E-07-ND; Manufacturer Part Number: PBC07SBDN; Stock 1: 0; Pricing 1: 1=1,39000, 10=1,22600, 25=1,15360, 50=1,10560, 100=1,05750, 250=0,96136, 500=0,86520 (USD); RoHS: Yes; Mount: Through Hole; Housing Material: Plastic; Color: Black; Housing Color: Black; Contact Material: Bronze; Contact Plating: Gold; Package Quantity: 1; Number of Rows: 1; Packaging: Bulk; Termination: Solder; Number of Contacts: 7; Length: 17.8mm; Height: 3.56mm; Contact Mating Length: 0.23inch; Width: 2.54mm; Lead Free: Lead Free; ComponentLink3URL: http://www.sullinscorp.com/catalogs/77_PAGE108-109_.100_MALE_HDR.pdf?src-supplier=Digi-Key; ComponentLink3Description: http://www.sullinscorp.com/catalogs/77_PAGE108-109_.100_MALE_HDR.pdf?src-supplier=Digi-Key
footprint CON_HDR_7PIN_90DEG (CONN HEADER VERT 7POS 2.54MM)
pins: 1, 2, 3, 4, 5, 6, 7

## CON_HDR_10PIN_SINGLE_F
designator CN?, comment M20-7821042  (value not drawn)
Connector Header Through Hole 10 position 0.100" (2.54mm); Manufacturer: Harwin; Fabricante: Sullins Connector Solutions; Number of Contacts: 4; Gender: Female; Number of Positions: 10; Connector Type: Receptacle,Socket; MPN: M20-7821042; Footprint: HDR 10 pin PTH; Value: M20-7821042; ComponentLink1Description: LOJA; ComponentLink1URL: https://www.digikey.com/product-detail/en/harwin-inc/M20-7821042/952-1846-ND/3727813; ComponentLink2Description: DATASHEET; ComponentLink2URL: https://cdn.harwin.com/pdfs/C001XX_M20_Series_Connectors.pdf; Supplier 1: Mouser; Supplier Part Number 1: 855-M20-7821042; Manufacturer Part Number: M20-7821042; Stock 1: 4770; Pricing 1: 1=1,39000, 10=1,18000, 100=1,02000, 500=0,86300, 1000=0,76800, 2500=0,67100 (USD); RoHS: Yes; Mount: Through Hole; Case/Package: SIL; Contact Plating: Tin,Gold; Color: Black; Number of Rows: 1; Termination: Solder; Contact Gender: Female; Package Quantity: 23; Packaging: Rail/Tube; Pitch: 2.54mm; Radiation Hardening: No; ComponentLink3URL: https://datasheet.ciiva.com/9480/m20-782-9480090.pdf?src-supplier=Avnet; ComponentLink3Description: https://datasheet.ciiva.com/9480/m20-782-9480090.pdf?src-supplier=Avnet; ComponentLink4URL: https://datasheet.ciiva.com/6784/m20-782-6784540.pdf?src-supplier=Digi-Key; ComponentLink4Description: https://datasheet.ciiva.com/6784/m20-782-6784540.pdf?src-supplier=Digi-Key
footprint CON_HDR_10PIN_F (CONN HEADER VERT 10POS 2.54MM)
pins: 1, 2, 3, 4, 5, 6, 7, 8, 9, 10

## CON_HDR_10PIN_SINGLE_M
designator CN?, comment Supplier Part Number 2: S1141E-07-ND  (hidden comment: M20-9991045)
CONN HEADER .100 SINGL R/A 7POS; Manufacturer: Harwin; Fabricante: Sullins Connector Solutions; Number of Contacts: 10; Gender: Male; Insulation Resistance: 10GR; Max Current Rating: 3A; Contact Resistance: 25mR; Connector Type: Male Pin; Pitch: 2.54mm; MPN: M20-9991045; Footprint: HDR 10 pin PTH; Value: M20-9991045; ComponentLink1Description: LOJA; ComponentLink1URL: https://www.digikey.com/product-detail/en/sullins-connector-solutions/PBC07SBDN/S1141E-07-ND/860455; ComponentLink2Description: DATASHEET; ComponentLink2URL: https://s3.amazonaws.com/catalogspreads-pdf/PAGE112-113%20.100%20MALE%20HDR.pdf; Supplier 1: Digi-Key; Supplier Part Number 1: 952-1842-ND; Manufacturer Part Number: M20-9991045; Stock 1: 9864; Pricing 1: 1=0,44000, 10=0,41300, 100=0,28910, 500=0,24780, 1000=0,20650, 5000=0,17700, 10000=0,16520 (USD); RoHS: Yes; Mount: Through Hole; Case/Package: SIL; Weight: 0.020459oz; Color: Black; Contact Plating: Gold; Contact Material: Brass,Bronze; Housing Material: Nylon; Housing Color: Black; Min Operating Temperature: -40°C; Max Operating Temperature: 105°C; Number of Rows: 1; Termination: Solder; Packaging: Bulk; Current Rating: 3A; Package Quantity: 500; Number of Positions: 10; Orientation: Straight; Length: 25.4mm; Height: 0.125inch; Width: 0.5inch; Contact Mating Length: 0.24inch; Depth: 2.54mm; Radiation Hardening: No; REACH SVHC: No SVHC; ComponentLink3URL: https://datasheet.ciiva.com/11753/0900766b80da602d-11753879.pdf?src-supplier=RSComponents; ComponentLink3Description: https://datasheet.ciiva.com/11753/0900766b80da602d-11753879.pdf?src-supplier=RSComponents; ComponentLink4URL: https://datasheet.ciiva.com/5160/m20-999-351179-5160221.pdf?src-supplier=Mouser; ComponentLink4Description: https://datasheet.ciiva.com/5160/m20-999-351179-5160221.pdf?src-supplier=Mouser; ComponentLink5URL: https://datasheet.ciiva.com/8046/689114-8046941.pdf?src-supplier=Element14; ComponentLink5Description: https://datasheet.ciiva.com/8046/689114-8046941.pdf?src-supplier=Element14; Supplier 2: Digi-Key; Category: Connectors; Pricing 2: 1=1,39000, 10=1,22600, 25=1,15360, 50=1,10560, 100=1,05750, 250=0,96136, 500=0,86520 (USD); Lead Free: Lead Free; ComponentLink6URL: http://www.sullinscorp.com/catalogs/77_PAGE108-109_.100_MALE_HDR.pdf?src-supplier=Digi-Key; ComponentLink6Description: http://www.sullinscorp.com/catalogs/77_PAGE108-109_.100_MALE_HDR.pdf?src-supplier=Digi-Key
footprint CON_HDR_10PIN_90DEG (CONN HEADER VERT 10POS 2.54MM)
pins: 1, 2, 3, 4, 5, 6, 7, 8, 9, 10

## CON_HDR_12PIN_SINGLE
designator CN?  Supplier Part Number 1: S9014E-12-ND  (hidden comment: *)
CONN HEADER .050" 12POS PCB GOLD; Manufacturer: Sullins; Manufacturer Part Number: GRPB121VWVN-RC; Fabricante: Sullins Connector Solutions; Connector Type: Male Pin; Number of Positions: 12; Pitch: 0.05inch; MPN: *; Footprint: HDR 12 pin PTH; Value: *; ComponentLink1Description: LOJA; ComponentLink1URL: https://www.digikey.com/products/en/connectors-interconnects/rectangular-connectors-headers-male-pins/314?k=CONNECTORS+HEADERS&k=&pkeyword=CONNECTORS+HEADERS&sv=0&v=35&sf=0&FV=1bf8000b%2C1f140000%2Cffe0013a%2C1600004%2C1680001&quantity=&ColumnSort=0&page=1&stock=1&pageSize=25; ComponentLink2Description: DATASHEET; ComponentLink2URL: https://s3.amazonaws.com/catalogspreads-pdf/PAGE94-95%20.050%20MALE%20HDR%20ST%20RA%20SMT.pdf; Supplier 1: Digi-Key; RoHS: Yes; Category: Connectors; Stock 1: 1160; Pricing 1: 1=0,87000, 10=0,76200, 100=0,65740, 500=0,53784, 1000=0,47808, 5000=0,43160 (USD); Mount: Through Hole; Contact Plating: Gold; Termination: Solder; Package Quantity: 1; Number of Rows: 1; Packaging: Bulk; Contact Mating Length: 0.118inch; Lead Free: Lead Free; ComponentLink3URL: https://datasheet.ciiva.com/726/71-grpb-1vwvn-rc-10957-c-726658.pdf?src-supplier=Digi-Key; ComponentLink3Description: https://datasheet.ciiva.com/726/71-grpb-1vwvn-rc-10957-c-726658.pdf?src-supplier=Digi-Key
footprint CON_HDR_12PIN_VERT (CONN HEADER VERT 12POS 1.27MM)
pins: 1, 2, 3, 4, 5, 6, 7, 8, 9, 10, 11, 12

## CON_MICRO_RF_JSC
designator CN?, comment MM5829-2700RK0
CONN JSC RCPT STR 50 OHM SMD; fabricante: Murata; Body Plating: Silver; Gender: Male; Max Frequency: 12GHz; Connector Type: Socket,Receptacle; Impedance: 50R; footprint: JSC SMD; MPN: MM5829-2700RK0; Value: MM5829-2700RK0; ComponentLink1Description: LOJA; ComponentLink1URL: https://www.digikey.com/product-detail/en/murata-electronics-north-america/MM5829-2700RK0/490-8449-1-ND/4380749; Supplier 1: Digi-Key; Supplier Part Number 1: 490-8449-1-ND; Manufacturer: Murata; Manufacturer Part Number: MM5829-2700RK0; Stock 1: 12403; Pricing 1: 1=0,28000, 10=0,26100, 25=0,22240, 50=0,19460, 100=0,18080, 250=0,15988, 500=0,15294, 1000=0,12514, 2500=0,11471 (USD); RoHS: Yes; Mount: Surface Mount; Case/Package: SMD/SMT; Housing Color: Gold; Contact Plating: Gold; Min Operating Temperature: -40°C; Max Operating Temperature: 85°C; Termination: Solder; Packaging: Tape and Reel; Package Quantity: 10000; Fastening Type: Push,Pull; Lead Free: Lead Free; ComponentLink2URL: http://www.mouser.com/ds/2/281/o33e-4435.pdf?src-supplier=Mouser; ComponentLink2Description: http://www.mouser.com/ds/2/281/o33e-4435.pdf?src-supplier=Mouser; ComponentLink3URL: https://media.digikey.com/pdf/Data%20Sheets/Murata%20PDFs/Microwave_Coaxial_Conn_Cat.pdf?src-supplier=Digi-Key; ComponentLink3Description: https://media.digikey.com/pdf/Data%20Sheets/Murata%20PDFs/Microwave_Coaxial_Conn_Cat.pdf?src-supplier=Digi-Key; ComponentLink4URL: http://www.murata.com/en-us/products/productdata/8796821192734/L0391E.pdf?src-supplier=Digi-Key; ComponentLink4Description: http://www.murata.com/en-us/products/productdata/8796821192734/L0391E.pdf?src-supplier=Digi-Key
footprint CON_JSC_MM5829-2700 (ONN JSC RCPT STR 50 OHM SMD)
pins: 1 SIG, 2 GND, 3 GND, 4 GND

## CON_PLUG_43-01197_ 4PIN
designator CN?, comment IN CURRENT
4 Position Circular Connector Plug, Female Sockets Solder Gold; MPN: 43-01197; Fabricante: Conec; Current Rating: 4A; Connector Type: Receptacle; Number of Positions: 4; Voltage Rating: 250V; Thread Size: M12; Ratings: IP67,Waterproof,Dust Tight; value: IN CURRENT; Footprint: CONN_PLUG_4POS_43-01197; ComponentLink1Description: LOJA; ComponentLink1URL: https://www.digikey.com/products/en?keywords=43-01197; ComponentLink2Description: DATASHEET; ComponentLink2URL: https://www.conec.com/catalog/en/download/download/drawing/?sku=43-01197; Supplier 1: Digi-Key; Supplier Part Number 1: 626-1514-ND; Manufacturer: Conec; Manufacturer Part Number: 43-01197; Stock 1: 1008; Pricing 1: 1=9,41000, 10=8,99800, 25=8,18000, 50=7,77100, 100=7,56650, 250=6,74852, 500=6,33950, 1000=5,60330, 2500=5,31700 (USD); RoHS: Yes; Mount: Through Hole,Panel,Bulkhead; Contact Plating: Gold; Min Operating Temperature: -30°C; Max Operating Temperature: 85°C; Packaging: Bulk; Termination: Solder; Package Quantity: 1; Gender: Female; Fastening Type: Threaded; Contact Gender: Female; Number of Contacts: 4; ComponentLink3URL: https://datasheet.ciiva.com/570/43k1a835-e-2-570352.pdf?src-supplier=Digi-Key; ComponentLink3Description: https://datasheet.ciiva.com/570/43k1a835-e-2-570352.pdf?src-supplier=Digi-Key
footprint FOOTPRINT_CONN_PLUG_4POS_43-01197 (4 Position Circular Connector Plug, Female Sockets Solder Gold)
footprint CONN_PLUG_4POS_43-01197 (4 Position Circular Connector Plug, Female Sockets Solder Gold)
pins: 1, 2, 3, 4, 5 SH

## CON_RPCT_2POS_TIN
designator CN?
2 Position Receptacle Connector 0.156" (3.96mm) Through Hole Tin; Fabricante: SAMTEC; MNP: FHP-02-01-T-S; Number of Contacts: 2; Connector Type: Receptacle,Socket; Number of Ports: 1; ComponentLink1Description: LOJA; ComponentLink1URL: https://www.digikey.com/product-detail/en/samtec-inc/FHP-02-01-T-S/SAM8374-ND/1106016; ComponentLink2Description: DATASHEET; ComponentLink2URL: http://suddendocs.samtec.com/prints/fhp-xx-xx-xx-s-xx-xx-mkt.pdf; Footprint: FHP-TH_Single; Value: *; Supplier 1: Digi-Key; Supplier Part Number 1: SAM8374-ND; Manufacturer: Samtec; Manufacturer Part Number: FHP-02-01-T-S; Stock 1: 1204; Pricing 1: 1=1,61000, 10=1,46500, 100=1,25580, 500=1,04650, 1000=0,89700, 5000=0,79534, 10000=0,77740 (USD); RoHS: Yes; Mount: Through Hole; Contact Plating: Tin; Contact Material: Copper; Color: Black; Housing Material: Polymer; Housing Color: Black; Number of Terminals: 2; Min Operating Temperature: -55°C; Max Operating Temperature: 105°C; Orientation: Straight; Termination: Solder; Number of Rows: 1; Packaging: Bulk; Gender: Receptacle; Package Quantity: 1; Number of Positions: 2; Length: 7.92mm; Pitch: 3.96mm; Width: 5.08mm; Depth: 5.08mm; Radiation Hardening: No; REACH SVHC: No SVHC; Lead Free: Lead Free; ComponentLink3URL: https://datasheet.ciiva.com/746/fhp-xx-xx-xx-s-xx-xx-mkt-746500.pdf?src-supplier=Digi-Key; ComponentLink3Description: https://datasheet.ciiva.com/746/fhp-xx-xx-xx-s-xx-xx-mkt-746500.pdf?src-supplier=Digi-Key
footprint FHP-TH_SINGlE (CONN RCPT 2POS 0.156 TIN PCB)
pins: 1, 2, 3 2, 4 2

## CON_SD_DM3CS-SF
designator CN?, comment DM3CS-SF
Conn Micro SD Card HDR 8 POS 1.1mm Solder RA SMD Embossed T/R 0.5A; fabricante: Hirose; Max Current Rating: 500mA; Number of Contacts: 8; Connector Type: Connector,Socket; Insulation Resistance: 1GR; Contact Resistance: 100mR; Voltage Rating (AC): 125V; Gender: Female; footprint: smd; MPN: DM3CS-SF; Value: *; ComponentLink1Description: LOJA; ComponentLink1URL: https://www.digikey.com/product-detail/en/hirose-electric-co-ltd/DM3CS-SF/HR1972CT-ND/2602740; Supplier 1: Digi-Key; Supplier Part Number 1: HR1972CT-ND; Manufacturer: Hirose; Manufacturer Part Number: DM3CS-SF; Stock 1: 41625; Pricing 1: 1=1,57000, 10=1,42800, 25=1,34080, 50=1,28260, 100=1,22430, 250=1,10772, 500=1,02026 (USD); RoHS: Yes; Mount: Surface Mount; Contact Material: Gold,Copper Alloy,Copper; Contact Plating: Gold; Housing Material: Polymer; Min Operating Temperature: -25°C; Max Operating Temperature: 85°C; Orientation: Right Angle; Number of Rows: 1; Termination: Solder; Package Quantity: 1; Packaging: Tape and Reel; Number of Positions: 8; Current Rating: 500mA; Length: 14.1mm; Pitch: 1.1mm; Depth: 1.83mm; Width: 13.8mm; Radiation Hardening: No; Flammability Rating: UL94 V-0; Lead Free: Lead Free; REACH SVHC: Unknown; ComponentLink2URL: https://datasheet.ciiva.com/683/e60900232-683360.pdf?src-supplier=Digi-Key; ComponentLink2Description: https://datasheet.ciiva.com/683/e60900232-683360.pdf?src-supplier=Digi-Key; ComponentLink3URL: https://datasheet.ciiva.com/4581/e60900232-38395-4581034.pdf?src-supplier=Mouser; ComponentLink3Description: https://datasheet.ciiva.com/4581/e60900232-38395-4581034.pdf?src-supplier=Mouser; ComponentLink4URL: https://datasheet.ciiva.com/16434/e60900232-16434058.pdf?src-supplier=Future+Electronics; ComponentLink4Description: https://datasheet.ciiva.com/16434/e60900232-16434058.pdf?src-supplier=Future+Electronics; ComponentLink5URL: https://datasheet.ciiva.com/683/e60900232-683359.pdf?src-supplier=Digi-Key; ComponentLink5Description: https://datasheet.ciiva.com/683/e60900232-683359.pdf?src-supplier=Digi-Key; ComponentLink6URL: https://datasheet.ciiva.com/683/e60900232-683361.pdf?src-supplier=Digi-Key; ComponentLink6Description: https://datasheet.ciiva.com/683/e60900232-683361.pdf?src-supplier=Digi-Key; ComponentLink7URL: https://datasheet.ciiva.com/7651/1465328-7651895.pdf?src-supplier=Element14; ComponentLink7Description: https://datasheet.ciiva.com/7651/1465328-7651895.pdf?src-supplier=Element14; ComponentLink8URL: https://datasheet.ciiva.com/3122/e60900232-3122536.pdf?src-supplier=Avnet; ComponentLink8Description: https://datasheet.ciiva.com/3122/e60900232-3122536.pdf?src-supplier=Avnet
footprint CON_SD_HRS_DM3CS-SF (CON SD CARD SMD)
part A pins: 1 DAT2, 2 CD/DAT3, 3 CMD, 4 VDD (power), 5 CLK (in), 6 VSS (power), 7 DAT0, 8 DAT1, 9 CD_SW
part B pins: S1 GND (power), S2 GND (power), S3 GND (power), S4 GND (power)
part A text: MICRO; SD

## CON_SIM_MUP-C746
designator CN?, comment MUP-C746
SIM HOLDER DUPLO SMD; fabricante: MUP INDUSTRIAL CO.; footprint: smd DUPLO; MPN: MUP-C746; Value: MUP-C746
footprint MUP-C746 (SIM HOLDER DUPLO SMD)
part A pins: A1 VSIM (power), A2 VRST (in), A3 VCLK (in), A4 RSV, A5 GND (power), A6 VPP, A7 VIO (io), A8 RSV1
part B pins: B1 VSIM (power), B2 VRST (in), B3 VCLK (in), B4 RSV, B5 GND (power), B6 VPP, B7 VIO (io), B8 RSV1
part A text: SIM CARD; A
part B text: SIM CARD; B

## CON_U.FL-R-SMT-1
designator CN?, comment U.FL-R-SMT-1
CONN U.FL RCPT STR 50 OHM SMD; Manufacturer: Hirose; Manufacturer Part Number: U.FL-R-SMT-1(10); fabricante: Murata; Body Material: Bronze; Body Plating: Silver; Dielectric Material: Polymer; Impedance: 50R; Connector Type: Coaxial,Receptacle,Male Pin; Frequency: 6GHz; Insulation Resistance: 500MR; Gender: Male; Wire/Cable Type: Coaxial; footprint: JSC SMD; MPN: U.FL-R-SMT-1; Value: U.FL-R-SMT-1; ComponentLink1Description: LOJA; ComponentLink1URL: https://www.digikey.com/product-detail/en/hirose-electric-co-ltd/U.FL-R-SMT-1-10/H11891TR-ND/2391570; Supplier 1: Digi-Key; Supplier Part Number 1: H11891TR-ND; Stock 1: 100000; Pricing 1: 2500=0,594500, 5000=0,574000, 12500=0,533000 (USD); RoHS: Yes; Mount: Surface Mount,Through Hole,PCB; Contact Plating: Gold; Contact Material: Brass,Bronze; Housing Color: Beige; Min Operating Temperature: -40°C; Max Operating Temperature: 90°C; Termination: Solder; Orientation: Straight; Packaging: Tape and Reel; Package Quantity: 2500; Fastening Type: Snap; Max Frequency: 6GHz; Length: 3mm; Depth: 3.1mm; Radiation Hardening: No; Lead Free: Lead Free; REACH SVHC: No SVHC; ComponentLink2URL: https://datasheet.ciiva.com/11762/0900766b8105243f-11762474.pdf?src-supplier=RSComponents; ComponentLink2Description: https://datasheet.ciiva.com/11762/0900766b8105243f-11762474.pdf?src-supplier=RSComponents; ComponentLink3URL: https://datasheet.ciiva.com/7651/91524-7651914.pdf?src-supplier=Element14; ComponentLink3Description: https://datasheet.ciiva.com/7651/91524-7651914.pdf?src-supplier=Element14; ComponentLink4URL: https://datasheet.ciiva.com/7651/91524-7651915.pdf?src-supplier=Element14; ComponentLink4Description: https://datasheet.ciiva.com/7651/91524-7651915.pdf?src-supplier=Element14
footprint CON_U.FL-R-SMT-1 (CONN U.FL RCPT STR 50 OHM SMD)
pins: 1 SIG, 2 GND, 3 GND

## CON_USB-B-S-F-B-VT
designator CN?, comment USB B
CONN RCPT USB2.0 TYPEB 4POS VERT; MPN: USB-B-S-F-B-VT; Manufacturer: Samtec; fabricante: Samtec Inc.; Product_Type: Connector; Number of Contacts: 4; Number of Ports: 1; Max Voltage Rating (AC): 30V; Gender: Female; Pitch: 2.5mm; footprint: *; Value: *; Supplier 1: Digi-Key; Supplier Part Number 1: SAM10374-ND; Manufacturer Part Number: USB-B-S-F-B-VT; Stock 1: 1311; Pricing 1: 1=1,67000, 10=1,51400, 25=1,42160, 50=1,35960, 100=1,29780, 250=1,17420, 500=1,08150, 1000=0,92700, 2500=0,86520 (USD); RoHS: Yes; Mount: Through Hole; Housing Material: Thermoplastic; Number of Terminals: 4; Contact Material: Bronze; Contact Plating: Gold; Min Operating Temperature: -50°C; Max Operating Temperature: 85°C; Termination: Solder; Orientation: Straight; Packaging: Bulk; Length: 14.78mm; Depth: 11.1mm; Radiation Hardening: No; ComponentLink1URL: http://components.arrow.com/part/dataview/0323_01328831?src-supplier=Arrow+Europe; ComponentLink1Description: http://components.arrow.com/part/dataview/0323_01328831?src-supplier=Arrow+Europe; ComponentLink2URL: http://components.arrow.com/part/dataview/44245449S7774004N1004?src-supplier=Arrow; ComponentLink2Description: http://components.arrow.com/part/dataview/44245449S7774004N1004?src-supplier=Arrow; ComponentLink3URL: ftp://ftp.samtec.com/webfiles/PDF/USB_B.PDF?src-supplier=Avnet+Europe; ComponentLink3Description: ftp://ftp.samtec.com/webfiles/PDF/USB_B.PDF?src-supplier=Avnet+Europe; ComponentLink4URL: ftp://ftp.samtec.com/webfiles/PDF/USB_B.PDF?src-supplier=Avnet; ComponentLink4Description: ftp://ftp.samtec.com/webfiles/PDF/USB_B.PDF?src-supplier=Avnet; ComponentLink5URL: http://suddendocs.samtec.com/catalog_english/usbr_b.pdf?src-supplier=Digi-Key; ComponentLink5Description: http://suddendocs.samtec.com/catalog_english/usbr_b.pdf?src-supplier=Digi-Key
footprint USB-B-S-F-B-VT
pins: 1 VCC (power), 2 D-, 3 D+, 4 GND (power), SH1 SHIELD, SH2 SHIELD

## CON_USB_A-1734366-3
designator CN?, comment 1734366-3  (value not drawn)
CONN RCPT USB2.0 TYPEA 4POS VERT; Fabricante: TE Connectivity; Plating: Bright,Tin; Number of Positions: 4; Number of Ports: 1; Gender: Receptacle; Contact Current Rating: 1A; Circuit Application: Power; Connector System: Cable-to-Board; Pitch: 2.5mm; Tail Length: 0.11inch; MPN: 1734366-3; Digi-Key_Part_Number: A123108-ND; Footprint: None; Value: *; ComponentLink1Description: loja; ComponentLink1URL: https://www.digikey.com/product-detail/en/te-connectivity-amp-connectors/1734366-3/A123108-ND/2331465; Supplier 1: Digi-Key; Supplier Part Number 1: A123108-ND; Manufacturer: TE Connectivity; Manufacturer Part Number: 1734366-3; Stock 1: 2907; Pricing 1: 1=0,98000, 10=0,86200, 25=0,81160, 50=0,77780, 100=0,74400, 250=0,67636, 500=0,60874, 1000=0,54109, 2500=0,50728 (USD); RoHS: Yes; Mount: Through Hole,Vertical; Contact Plating: Gold; Housing Color: Blue; Number of Terminals: 4; Color: Blue; Contact Material: Bronze; Housing Material: Thermoplastic; Min Operating Temperature: -40°C; Max Operating Temperature: 80°C; Number of Contacts: 4; Termination: Through Hole; Package Quantity: 1200; Packaging: Tray; Orientation: Vertical; Connector Type: Receptacle; Length: 15.8mm; Depth: 18.93mm; ELV: Compliant; Lead Free: Lead Free; ComponentLink2URL: https://datasheet.ciiva.com/851/eng-cd-1734366-c-851563.pdf?src-supplier=Digi-Key; ComponentLink2Description: https://datasheet.ciiva.com/851/eng-cd-1734366-c-851563.pdf?src-supplier=Digi-Key
footprint CON_USB_A-TE_1734366-3 (USB - A USB 2.0 Receptacle Connector 4 Position Through Hole)
pins: 1 VDD (power), 2 D- (io), 3 D+ (io), 4 GND (power), 5 SHD, 6 SHD

## CON_USB_B-292304-3
designator CN?, comment USB B  Supplier Part Number 1: A121586-ND
Conn USB RCP 4 POS 2.5mm Solder RA Thru-Hole 4 Terminal 1 Port Tray; MPN: 292304-3; fabricante: TE Connectivity; Product_Type: Connector; Plating: Bright,Tin; Gender: Receptacle; Plating Thickness: 0.76um; Number of Positions: 4; Contact Current Rating: 1A; Circuit Application: Signal; Connector System: Cable-to-Board; Number of Ports: 1; PCB Thickness: 1.57mm; Tail Length: 0.1185inch; footprint: *; Value: *; ComponentLink1Description: LOJA; ComponentLink1URL: https://www.digikey.com/products/en?keywords=292304-3; Supplier 1: Digi-Key; Manufacturer: TE Connectivity; Manufacturer Part Number: 292304-3; RoHS: Yes; Category: Connectors; Stock 1: 1832; Pricing 1: 1=2,59000, 10=2,34700, 25=2,20360, 50=2,10780, 100=2,01200, 250=1,82040, 500=1,67668, 1000=1,43715, 2500=1,34134 (USD); Mount: Through Hole,Horizontal; Color: Black; Contact Material: Copper Alloy; Contact Plating: Gold; Housing Color: Black; Housing Material: Thermoplastic; Number of Terminals: 4; Min Operating Temperature: -67°C; Max Operating Temperature: 185°C; Orientation: Right Angle; Termination: Through Hole; Packaging: Tray; Package Quantity: 100; Connector Type: Receptacle; Number of Contacts: 4; Length: 12.04mm; Pitch: 2.5mm; Depth: 15.71mm; Radiation Hardening: No; Flammability Rating: UL94 V-0; ComponentLink2URL: https://datasheet.ciiva.com/851/eng-cd-292304-d2-851088.pdf?src-supplier=Avnet; ComponentLink2Description: https://datasheet.ciiva.com/851/eng-cd-292304-d2-851088.pdf?src-supplier=Avnet; ComponentLink3URL: https://datasheet.ciiva.com/16308/292304-3-16308327.pdf?src-supplier=Future+Electronics; ComponentLink3Description: https://datasheet.ciiva.com/16308/292304-3-16308327.pdf?src-supplier=Future+Electronics; ComponentLink4URL: https://datasheet.ciiva.com/851/eng-cd-292304-d2-851620.pdf?src-supplier=Digi-Key; ComponentLink4Description: https://datasheet.ciiva.com/851/eng-cd-292304-d2-851620.pdf?src-supplier=Digi-Key; ComponentLink5URL: https://datasheet.ciiva.com/16667/eng-cd-292304-d2-16667934.pdf?src-supplier=Avnet+Europe; ComponentLink5Description: https://datasheet.ciiva.com/16667/eng-cd-292304-d2-16667934.pdf?src-supplier=Avnet+Europe
footprint TE_292304-3_USB_B (CONECTOR USB TIPO B)
pins: 1 VCC (power), 2 D-, 3 D+, 4 GND (power), SH1 SHIELD, SH2 SHIELD